# Altium footprint library TactileButton_4x4.PcbLib: 1 footprints
Each footprint in its own frame and in the unit in brackets; x right, y up, seen from the top. Pads: shape width x height; smd on the part's side, far side on the other; paste and mask are expansions set on the pad; w line width, h text height; cw(c..) or ccw(c..) is an arc to the next point about the centre after c.
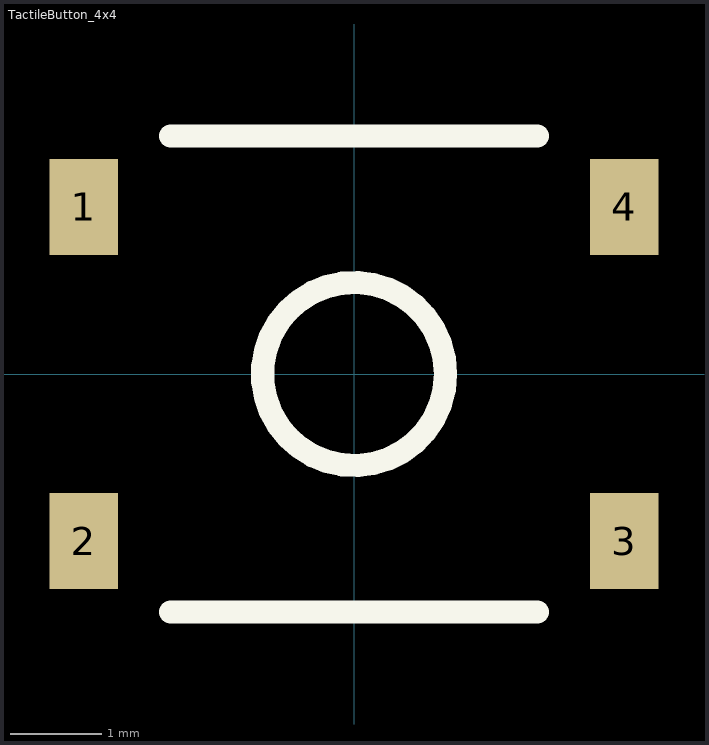
[diagram p0: the footprint, top view; thin cyan lines are the x and y axes]

## TactileButton_4x4 [mm] "Tactile Button 4mm x 4mm H=1.5mm SMD 4-Pin"
height 1.5
pads (4):
  rect 0.75x1.05 smd: 1(-2.95,1.825) 2(-2.95,-1.825) 3(2.95,-1.825) 4(2.95,1.825)
Top Overlay:
  circle w0.254: c0,0 r1
  lines w0.254: -2,-2.6 2,-2.6 ; -2,2.6 2,2.6